# EAGLE library part LA74244 (library ioshub)
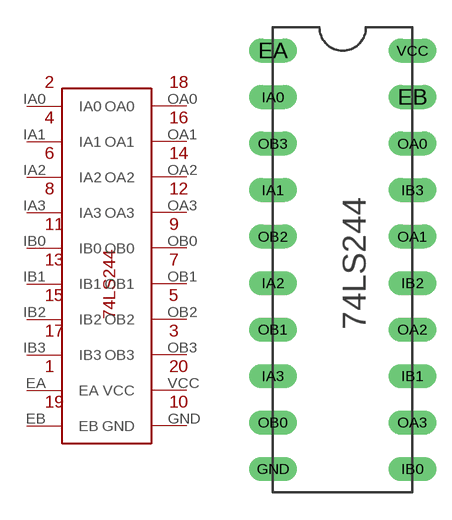
[diagram p4: symbol with the pads of LA74244; footprint LA74244]

Designator prefix -

## LA7424474LS244-L-ANALYZER  [LA74244]
EA  EA
EB  EB
GND  GND
IA0  IA0
IA1  IA1
IA2  IA2
IA3  IA3
IB0  IB0
IB1  IB1
IB2  IB2
IB3  IB3
OA0  OA0
OA1  OA1
OA2  OA2
OA3  OA3
OB0  OB0
OB1  OB1
OB2  OB2
OB3  OB3
VCC  VCC

## Footprint LA74244 (pad centres in mm)
drill 0.8 long: EA -2.54,11.43; EB 5.08,8.89; GND -2.54,-11.43; IA0 -2.54,8.89; IA1 -2.54,3.81; IA2 -2.54,-1.27; IA3 -2.54,-6.35; IB0 5.08,-11.43; IB1 5.08,-6.35; IB2 5.08,-1.27; IB3 5.08,3.81; OA0 5.08,6.35; OA1 5.08,1.27; OA2 5.08,-3.81; OA3 5.08,-8.89; OB0 -2.54,-8.89; OB1 -2.54,-3.81; OB2 -2.54,1.27; OB3 -2.54,6.35; VCC 5.08,11.43